# Altium schematic symbol library TSOP1838.SchLib: 1 symbol
Pins are listed as number, name and electrical type; pins without a type are passive.

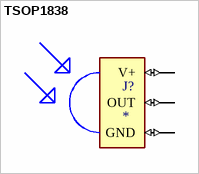
[diagram p0: symbol TSOP1838]

## TSOP1838
designator J?
IR Receiver and Demodulator; MP: TSOP1838; Value: *; Package: None; Availability: Unavailable; Price: None
footprint TSOP18XX
pins: GND (io), OUT (io), VCC V+ (io)